# Altium schematic symbol library Schlib1.SchLib: 8 symbols
Pins are listed as number, name and electrical type; pins without a type are passive.

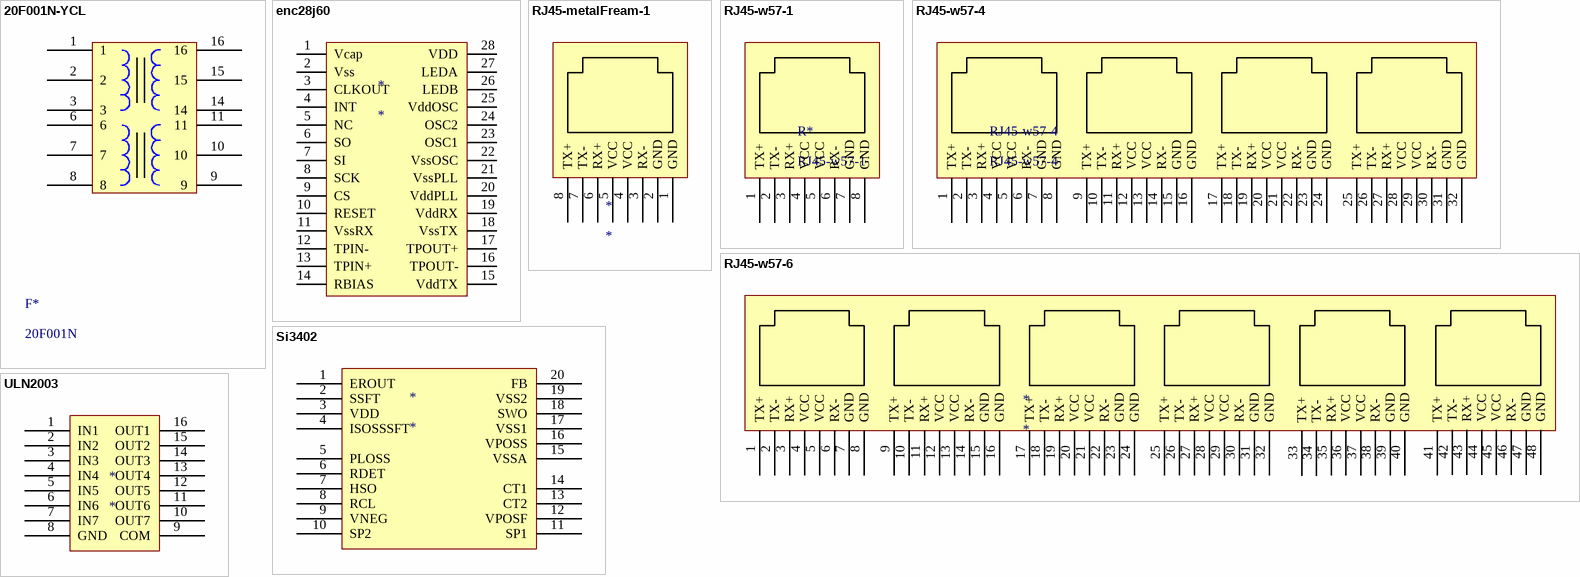
[diagram p0: symbols 20F001N-YCL to ULN2003]

## 20F001N-YCL
designator F*, comment 20F001N
footprint 20F001N-YCl
pins: 1, 2, 3, 6, 7, 8, 9, 10, 11, 14, 15, 16

## enc28j60
designator *
footprint SOIC127P1030X265-28N (SOIC, 28-Leads, Body 17.90x7.50mm, Pitch 1.27mm, IPC Medium Density)
pins: 1 Vcap, 2 Vss, 3 CLKOUT, 4 INT, 5 NC, 6 SO, 7 SI, 8 SCK, 9 CS, 10 RESET, 11 VssRX, 12 TPIN-, 13 TPIN+, 14 RBIAS, 15 VddTX, 16 TPOUT-, 17 TPOUT+, 18 VssTX, 19 VddRX, 20 VddPLL, 21 VssPLL, 22 VssOSC, 23 OSC1, 24 OSC2, 25 VddOSC, 26 LEDB, 27 LEDA, 28 VDD

## RJ45-metalFream-1
designator *
footprint rj45-hb
pins: 1 GND, 2 GND, 3 RX-, 4 VCC, 5 VCC, 6 RX+, 7 TX-, 8 TX+

## RJ45-w57-1
designator R*
footprint rj45-w57-1
footprint rj45-hb
pins: 1 TX+, 2 TX-, 3 RX+, 4 VCC, 5 VCC, 6 RX-, 7 GND, 8 GND

## RJ45-w57-4
designator RJ45-w57-4
footprint rj45-w57-4
pins: 1 TX+, 2 TX-, 3 RX+, 4 VCC, 5 VCC, 6 RX-, 7 GND, 8 GND, 9 TX+, 10 TX-, 11 RX+, 12 VCC, 13 VCC, 14 RX-, 15 GND, 16 GND, 17 TX+, 18 TX-, 19 RX+, 20 VCC, 21 VCC, 22 RX-, 23 GND, 24 GND, 25 TX+, 26 TX-, 27 RX+, 28 VCC, 29 VCC, 30 RX-, 31 GND, 32 GND

## RJ45-w57-6
designator *
footprint RJ45-W57-6
pins: 1 TX+, 2 TX-, 3 RX+, 4 VCC, 5 VCC, 6 RX-, 7 GND, 8 GND, 9 TX+, 10 TX-, 11 RX+, 12 VCC, 13 VCC, 14 RX-, 15 GND, 16 GND, 17 TX+, 18 TX-, 19 RX+, 20 VCC, 21 VCC, 22 RX-, 23 GND, 24 GND, 25 TX+, 26 TX-, 27 RX+, 28 VCC, 29 VCC, 30 RX-, 31 GND, 32 GND, 33 TX+, 34 TX-, 35 RX+, 36 VCC, 37 VCC, 38 RX-, 39 GND, 40 GND, 41 TX+, 42 TX-, 43 RX+, 44 VCC, 45 VCC, 46 RX-, 47 GND, 48 GND

## Si3402
designator *
footprint QFN80P500X500X90_HS-21N (QFN, 20-Leads, Body 5.00x5.00mm, Pitch 0.80mm, Thermal Pad 2.70x2.70mm, IPC Medium Density)
pins: 1 EROUT, 2 SSFT, 3 VDD, 4 ISOSSSFT, 5 PLOSS, 6 RDET, 7 HSO, 8 RCL, 9 VNEG, 10 SP2, 11 SP1, 12 VPOSF, 13 CT2, 14 CT1, 15 VSSA, 16 VPOSS, 17 VSS1, 18 SWO, 19 VSS2, 20 FB

## ULN2003
designator *
footprint SOCI16
pins: 1 IN1, 2 IN2, 3 IN3, 4 IN4, 5 IN5, 6 IN6, 7 IN7, 8 GND, 9 COM, 10 OUT7, 11 OUT6, 12 OUT5, 13 OUT4, 14 OUT3, 15 OUT2, 16 OUT1